# Altium integrated library Antenna.IntLib: 5 symbols
Pins are listed as number, name and electrical type; pins without a type are passive.

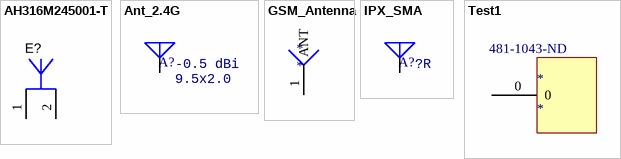
[diagram p0: symbols AH316M245001-T to Test1]

## AH316M245001-T
designator E?  (value not drawn)
ANT BLUETOOTH W-LAN ZIGBEE WIMAX, SMD; Manufacturer: Taiyo Yuden; SymbolCreator: a0411947; CompType: Antenna; SymbolVersion: 2014-04-04; PartNumber: AH316M245001-T; MountType: SMT; ComponentLink1Description: Datasheet Link; ComponentLink1URL: http://www.yuden.co.jp/productdata/catalog/en/chipantenna01_e.pdf; RoHS: Y; PackageReference: 3.2x1.6mm; Publisher: Texas Instruments; LatestRevisionDate: 2015-02-19; Supplier 1: Digi-Key; Supplier Part Number 1: 587-2200-1-ND; Supplier 2: Mouser; Supplier Part Number 2: 963-AH316M245001-T; Supplier 3: Farnell; Supplier Part Number 3: 2084742
footprint TAYO_AH316M
pins: 1, 2

## Ant_2.4G
designator A?, comment value -0.5 dBi  type: 9.5x2.0  (hidden comment: 2.4GHz 50R)
Antenna
footprint ANT_2.4G_9.5x2.0
footprint ANT_2.4G_3.2x1.6
pins: 1 A

## GSM_Antenna
designator *
footprint GSM_Antenna
pins: 1 ANT

## IPX_SMA
designator A?  value ?R  (hidden comment: IPX_SMA)
IPX
footprint IPX_SMA
pins: 1 S

## Test1
designator *  Supplier Part Number 1: 481-1043-ND
Manufacturer: Texas Instruments; Manufacturer Part Number: RI-ANT-G02E-30; Frequency: 134.2kHz; Cable Length: 1m; Supplier 1: Digi-Key; Stock 1: 0; Min Operating Temperature: -30°C; Max Operating Temperature: 60°C; Package Quantity: 1; Packaging: Bulk; Termination: Screw; Length: 200mm; Height: 25mm; Width: 200mm; Radiation Hardening: No; REACH SVHC: No SVHC; Lead Free: Contains Lead; ComponentLink1URL: https://datasheet.ciiva.com/11769/0900766b80e79eb3-11769040.pdf; ComponentLink1Description: https://datasheet.ciiva.com/11769/0900766b80e79eb3-11769040.pdf; ComponentLink2URL: https://datasheet.ciiva.com/26930/getdatasheetpartid-189525-26930877.pdf; ComponentLink2Description: https://datasheet.ciiva.com/26930/getdatasheetpartid-189525-26930877.pdf; ComponentLink3URL: https://datasheet.ciiva.com/1368/702958-1368244.pdf; ComponentLink3Description: https://datasheet.ciiva.com/1368/702958-1368244.pdf; ComponentLink4URL: https://datasheet.ciiva.com/1376/702958-1376761.pdf; ComponentLink4Description: https://datasheet.ciiva.com/1376/702958-1376761.pdf; ComponentLink5URL: https://datasheet.ciiva.com/2803/ri-ant-g01e-2803198.pdf; ComponentLink5Description: https://datasheet.ciiva.com/2803/ri-ant-g01e-2803198.pdf
footprint Test1
pins: 0